# Altium schematic symbol library GPS_Neo6X.SchLib: 1 symbol
Pins are listed as number, name and electrical type; pins without a type are passive.

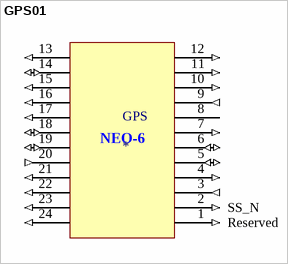
[diagram p0: symbol GPS01]

## GPS01
designator GPS
GPS_NEO-6M
footprint GPS Module (Neo-6M GPS Module)
pins: 1 Reserved (in), 2 SS_N (in), 3 TIMEPULSE (out), 4 EXTINT0 (in), 5 USB_DM (io), 6 USB_DP (io), 7 VDDUSB (in), 8 Reserved, 9 VCC_RF (out), 10 GND (in), 11 RF_IN (in), 12 GND (in), 13 GND (in), 14 MOSI/CFG_COM0 (io), 15 MISO/CFG_COM1 (in), 16 CFG_GPS0/SCK (in), 17 Reserved (in), 18 SDA2 (io), 19 SCL2  (io), 20 TxD1 (out), 21 RxD1 (in), 22 V_BCKP (in), 23 VCC (in), 24 GND (in)
text: NEO-6